# Altium schematic symbol library TAG_V2.SCHLIB: 42 symbols
Pins are listed as number, name and electrical type; pins without a type are passive.

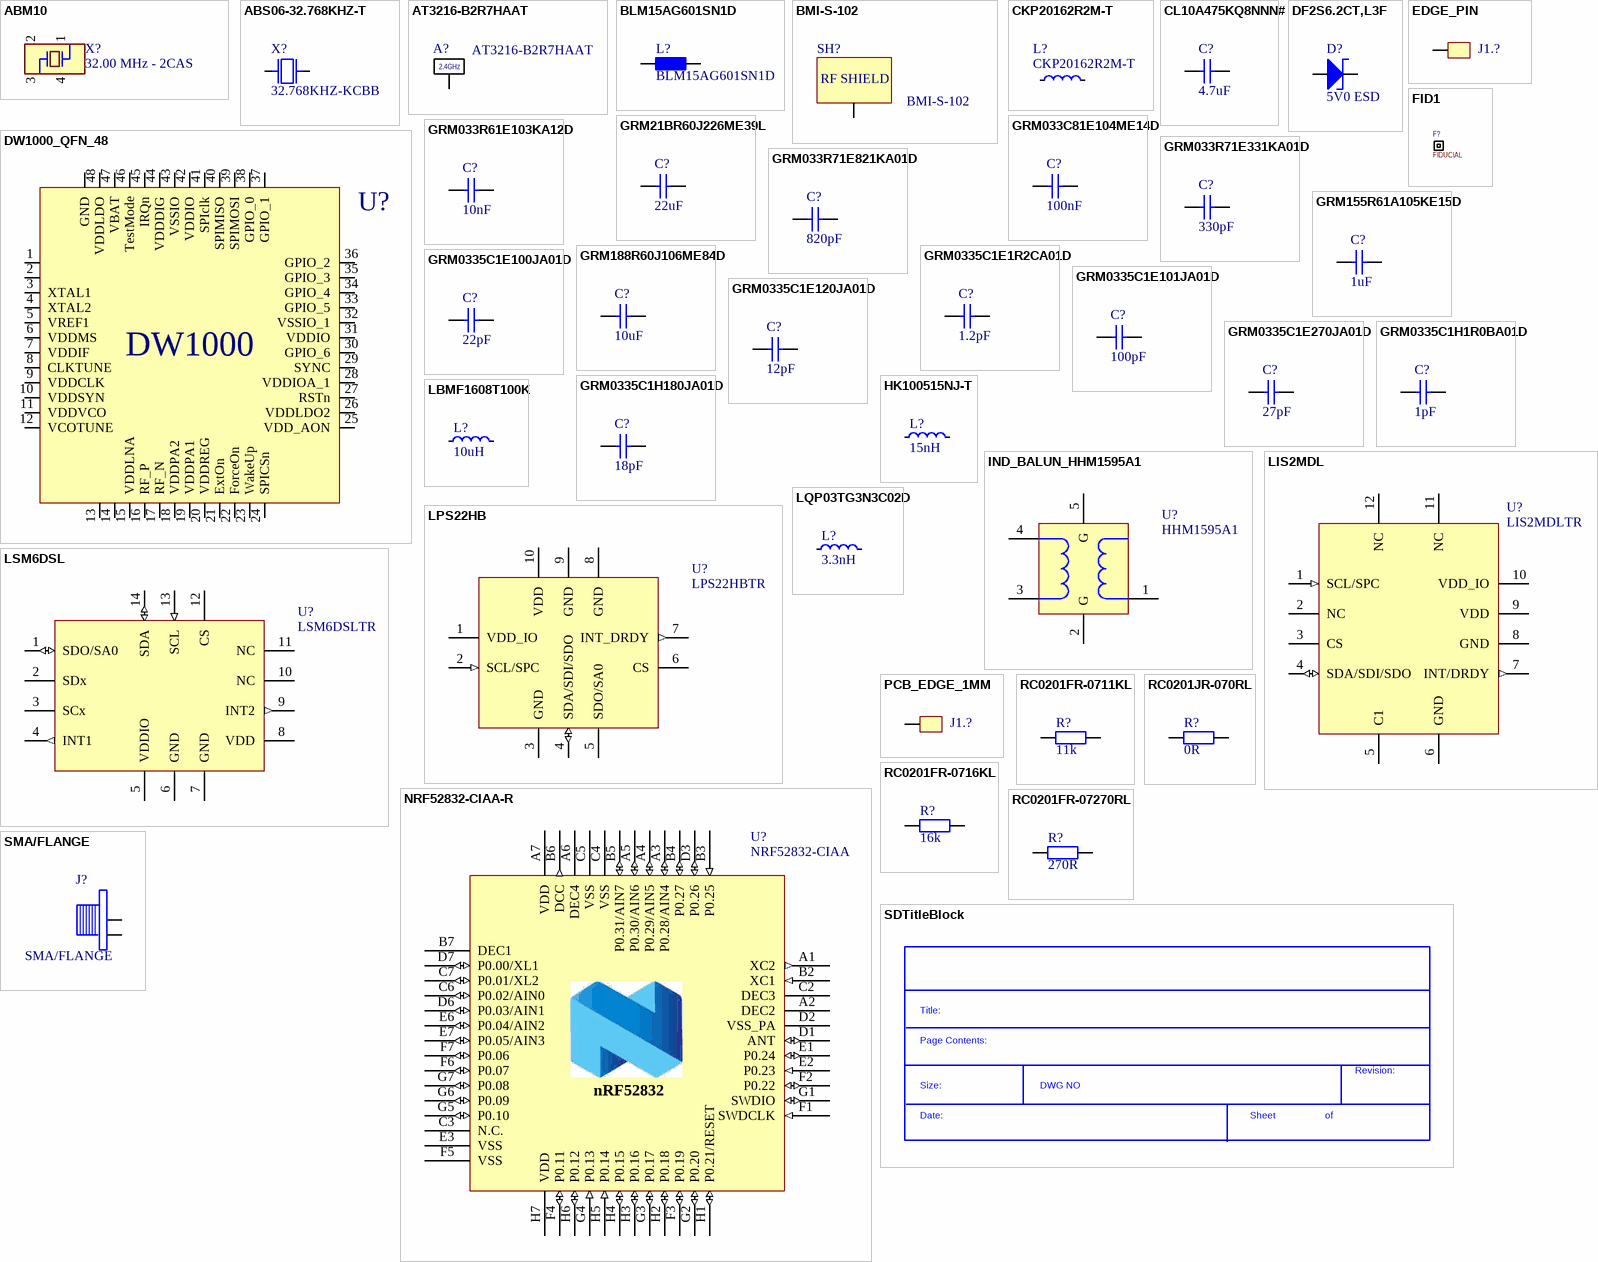
[diagram p0: symbols ABM10 to SMA/FLANGE]

## ABM10
designator X?, comment 32.00 MHz - 2CAS
Manufacturer: Commutek; Manufacturer Part Number: 2CAS
footprint ABM10 (Abracon ABM10)
pins: 1, 2, 3, 4

## ABS06-32.768KHZ-T
designator X?, comment 32.768KHZ-KCBB
CRYSTAL 32.7680KHZ 12.5PF SMD; Manufacturer: Commutek; Manufacturer Part Number: KCBB
footprint XTAL_SMD_3.2X1.5MM
pins: 1, 2

## AT3216-B2R7HAAT
designator A?
CHIP, 2.45GHZ, 50 OHM, 3.2x1.6 ACX - AAT3216-B2R7HAAT- ANTENNA; Manufacturer: ACX; Manufacturer Part Number: AT3216-B2R7HAAT
footprint AT3216 (Chip Antenna 2-Leads, Body 3,20x1,60mm)
pins: 1
text: 2.4GHz

## BLM15AG601SN1D
designator L?
FERRITE BEAD 600 OHM 0402 1LN; Manufacturer: Murata Electronics North America; Manufacturer Part Number: BLM15AG601SN1D
footprint INDC1005X05N (Chip Inductor, 2-Leads, Body 1,00x0,50mm, IPC Medium Density)
pins: 1, 2

## BMI-S-102
designator SH?
BOARD SHIELD .65X.65" 1PIECE; Manufacturer: Laird Technologies EMI; Manufacturer Part Number: BMI-S-102
footprint BMI-S102
pins: 0 GND
text: RF SHIELD

## CKP20162R2M-T
designator L?
FIXED IND 2.2UH 1.2A 110 MOHM; Manufacturer: TAIYO YUDEN; Manufacturer Part Number: CKP20162R2M-T
footprint INDC2016X10N (Footprint not found)
pins: 1, 2

## CL10A475KQ8NNN#
designator C?, comment 4.7uF
CAP CER 4.7UF 6.3V X5R 0603; Manufacturer: SamSung; Manufacturer Part Number: CL10A475KQ8NNN#
footprint C0603
pins: 1, 2

## DF2S6.2CT,L3F
designator D?, comment 5V0 ESD
TVS DIODE 5VWM; Manufacturer: Toshiba Semiconductor and Storage; Manufacturer Part Number: DF2S6.2CT,L3F
footprint DFN65P100X40-2N (DFN, 2-Leads, Body 0,60x1,00mm, Pitch 0,65mm, IPC Medium Density)
pins: A, K

## DW1000_QFN_48
designator U?, comment DW1000 IC  (value not drawn)
UWB DW1000 QFN48; Manufacturer: Decawave Ltd.; Cost: *; Footprint: QFN_48; Manufacturer Part Number: DW1000
footprint QFN-48_DW1000 (48 Pin QFN)
pins: 1, 2, 3 XTAL1, 4 XTAL2, 5 VREF1, 6 VDDMS, 7 VDDIF, 8 CLKTUNE, 9 VDDCLK, 10 VDDSYN, 11 VDDVCO, 12 VCOTUNE, 13, 14, 15 VDDLNA, 16 RF_P, 17 RF_N, 18 VDDPA2, 19 VDDPA1, 20 VDDREG, 21 ExtOn, 22 ForceOn, 23 WakeUp, 24 SPICSn, 25 VDD_AON, 26 VDDLDO2, 27 RSTn, 28 VDDIOA_1, 29 SYNC, 30 GPIO_6, 31 VDDIO, 32 VSSIO_1, 33 GPIO_5, 34 GPIO_4, 35 GPIO_3, 36 GPIO_2, 37 GPIO_1, 38 GPIO_0, 39 SPIMOSI, 40 SPIMISO, 41 SPIclk, 42 VDDIO, 43 VSSIO, 44 VDDDIG, 45 IRQn, 46 TestMode, 47 VBAT, 48 VDDLDO, EP GND

## EDGE_PIN
designator J1.?  (value not drawn)  (no BOM)
PCB Edge pin
footprint PCB_EDGE (PCB EDGE PIN)
footprint PCB_EDGE_1MM (PCB EDGE PIN)
pins: 0

## FID1
designator F?, comment FIDUCIAL
Fiducial 1mm
footprint FID1

## GRM21BR60J226ME39L
designator C?, comment 22uF
CAP CER 22UF 6.3V X5R 0805; Manufacturer: Samsung; Manufacturer Part Number: CL21A226MQQNNNE
footprint C0805
pins: 1, 2

## GRM033C81E104ME14D
designator C?, comment 100nF
CAP CER 0.1UF 25V X6S 0201; Manufacturer: Murata Electronics North America; Manufacturer Part Number: GRM033C81E104ME14D
footprint C0201 (Creator MM)
pins: 1, 2

## GRM033R61E103KA12D
designator C?, comment 10nF
CAP CER 10000PF 25V X5R 0201; Manufacturer: Murata Electronics North America; Manufacturer Part Number: GRM033R61E103KA12D
footprint C0201 (Creator MM)
pins: 1, 2

## GRM033R71E331KA01D
designator C?, comment 330pF
CAP CER 330PF 25V X7R 0201; Manufacturer: Samsung; Manufacturer Part Number: CL03B331KA3NNNC
footprint C0201 (Creator MM)
pins: 1, 2

## GRM033R71E821KA01D
designator C?, comment 820pF
CAP CER 820PF 25V X7R 0201; Manufacturer: Murata Electronics North America; Manufacturer Part Number: GRM033R71E821KA01D
footprint C0201 (Creator MM)
pins: 1, 2

## GRM155R61A105KE15D
designator C?, comment 1uF
CAP CER 1UF 10V X5R 0402; Manufacturer: Murata Electronics North America; Manufacturer Part Number: GRM155R61A105KE15D
footprint C0402
pins: 1, 2

## GRM188R60J106ME84D
designator C?, comment 10uF
CAP CER 10UF 6.3V X5R 0603; Manufacturer: Murata Electronics North America; Manufacturer Part Number: GRM188R60J106ME47D
footprint C0603
pins: 1, 2

## GRM0335C1E1R2CA01D
designator C?, comment 1.2pF
CAP CER 1.2PF 25V NP0 0201; Manufacturer: Murata Electronics North America; Manufacturer Part Number: GRM0335C1E1R2CA01D
footprint C0201 (Creator MM)
pins: 1, 2

## GRM0335C1E100JA01D
designator C?, comment 22pF
CAP CER 22PF 25V NP0 0201; Manufacturer: Murata Electronics North America; Manufacturer Part Number: GRM0335C1E220JA01D; Failure Rate: *
footprint C0201
pins: 1, 2

## GRM0335C1E101JA01D
designator C?, comment 100pF
CAP CER 100PF 25V NP0 0201; Manufacturer: Murata Electronics North America; Manufacturer Part Number: GRM0335C1E101JA01D
footprint C0201 (Creator MM)
pins: 1, 2

## GRM0335C1E120JA01D
designator C?, comment 12pF
CAP CER 12PF 25V NP0 0201; Manufacturer: Murata Electronics North America; Manufacturer Part Number: GRM0335C1E120JA01D
footprint C0201 (Creator MM)
pins: 1, 2

## GRM0335C1E270JA01D
designator C?, comment 27pF
CAP CER 27PF 25V NP0 0201; Manufacturer: Murata Electronics North America; Manufacturer Part Number: GRM0335C1E270JA01D
footprint C0201 (Creator MM)
pins: 1, 2

## GRM0335C1H1R0BA01D
designator C?, comment 1pF
CAP CER 1PF 50V NP0 0201; Manufacturer: Murata Electronics North America; Manufacturer Part Number: GRM0335C1H1R0BA01D
footprint C0201 (Creator MM)
pins: 1, 2

## GRM0335C1H180JA01D
designator C?, comment 18pF
CAP CER 18PF 50V NP0 0201; Manufacturer: Murata Electronics North America; Manufacturer Part Number: GRM0335C1H180JA01D; Thickness (Max): *
footprint C0201 (Creator MM)
pins: 1, 2

## HK100515NJ-T
designator L?, comment 15nH
FIXED IND 15NH 320MA 460 MOHM; Manufacturer: Taiyo Yuden; Manufacturer Part Number: HK100515NJ-T
footprint INDC1005X05N (Chip Inductor, 2-Leads, Body 1,00x0,50mm, IPC Medium Density)
pins: 1, 2

## IND_BALUN_HHM1595A1
designator U?, comment HHM1595A1
Mulitilayer Balun; Manufacturer: TDK; Manufacturer Part Number: HHM1595A1
footprint BALUN_HHM1595A1 (Footprint not found)
pins: 1 UB, 2 G, 3 B, 4 B, 5 G

## LBMF1608T100K
designator L?, comment 10uH
FIXED IND 10UH 80MA 360 MOHM SMD; Manufacturer: Taiyo Yuden; Manufacturer Part Number: LBMF1608T100K
footprint L0603
pins: 1, 2

## LIS2MDL
designator U?, comment LIS2MDLTR
Manufacturer: STmicroelectronics; Manufacturer Part Number: LIS2MDLTR
footprint IC_LGA-12 (LIS2MDL)
pins: 1 SCL/SPC (in), 2 NC, 3 CS, 4 SDA/SDI/SDO (io), 5 C1, 6 GND, 7 INT/DRDY (out), 8 GND, 9 VDD (power), 10 VDD_IO (power), 11 NC, 12 NC

## LPS22HB
designator U?, comment LPS22HBTR
Manufacturer: STmicroelectronics; Manufacturer Part Number: LPS22HBTR
footprint HLGA-10L
pins: 1 VDD_IO (power), 2 SCL/SPC (in), 3 GND, 4 SDA/SDI/SDO (io), 5 SDO/SA0, 6 CS, 7 INT_DRDY (out), 8 GND, 9 GND, 10 VDD (power)

## LQP03TG3N3C02D
designator L?, comment 3.3nH
FIXED IND 3.3NH 400MA 320 MOHM; Manufacturer: Murata Electronics North America; Manufacturer Part Number: LQP03TG3N3C02D
footprint L0201
pins: 1, 2

## LSM6DSL
designator U?, comment LSM6DSLTR
Manufacturer: STmicroelectronics; Manufacturer Part Number: LSM6DSLTR
footprint IC_LGA-14 (LSM6DSL)
pins: 1 SDO/SA0 (io), 2 SDx, 3 SCx, 4 INT1 (out), 5 VDDIO (power), 6 GND, 7 GND, 8 VDD (power), 9 INT2 (out), 10 NC, 11 NC, 12 CS, 13 SCL (in), 14 SDA (io)

## NRF52832-CIAA-R
designator U?, comment NRF52832-CIAA
IC RF TXRX+MCU BLUETOOTH 50WLCSP; Manufacturer: Nordic Semiconductor ASA; Manufacturer Part Number: NRF52832-CIAA-R; RF Family/Standard: *; Protocol: *; Modulation: *; Frequency: *; Data Rate (Max): *; Power - Output: *; Sensitivity: *; Memory Size: *; Serial Interfaces: *; GPIO: *; Voltage - Supply: *; Current - Receiving: *; Current - Transmitting: *; Operating Temperature: *
footprint BGA50C40P7X8_295X322X50 (BGA, 50-Leads, Body 2.95x3.22mmx0.50mm, Pitch 0.40mm)
pins: A1 XC2 (out), A2 DEC2 (power), A3 P0.28/AIN4 (io), A4 P0.29/AIN5 (io), A5 P0.30/AIN6 (io), A6 DEC4 (power), A7 VDD (power), B2 XC1 (in), B3 P0.25 (in), B4 P0.27 (io), B5 P0.31/AIN7 (io), B6 DCC (out), B7 DEC1 (power), C2 DEC3 (power), C3 N.C. (power), C4 VSS (power), C5 VSS (power), C6 P0.02/AIN0 (io), C7 P0.01/XL2 (io), D1 ANT (io), D2 VSS_PA (power), D3 P0.26 (io), D6 P0.03/AIN1 (io), D7 P0.00/XL1 (io), E1 P0.24 (io), E2 P0.23 (in), E3 VSS (power), E6 P0.04/AIN2 (io), E7 P0.05/AIN3 (io), F1 SWDCLK (in), F2 P0.22 (io), F3 P0.19 (io), F4 P0.11 (io), F5 VSS (power), F6 P0.07 (io), F7 P0.06 (io), G1 SWDIO (io), G2 P0.20 (io), G3 P0.17 (io), G4 P0.13 (in), G5 P0.10 (io), G6 P0.09 (io), G7 P0.08 (io), H1 P0.21/RESET (io), H2 P0.18 (io), H3 P0.16 (io), H4 P0.15 (io), H5 P0.14 (in), H6 P0.12 (io), H7 VDD (power)
text: nRF52832

## PCB_EDGE_1MM
designator J1.?, comment EDGE_PIN  (value not drawn)
PCB Edge pin
footprint PCB_EDGE (PCB EDGE PIN)
footprint PCB_EDGE_1MM (PCB EDGE PIN)
pins: 0

## RC0201FR-0711KL
designator R?, comment 11k
RES SMD 11K OHM 1% 1/20W 0201; Manufacturer: Yageo; Manufacturer Part Number: RC0201FR-0711KL
footprint R0201 (Creator MM)
pins: 1, 2

## RC0201FR-0716KL
designator R?, comment 16k
RES SMD 16K OHM 1% 1/20W 0201; Manufacturer: Yageo; Manufacturer Part Number: RC0201FR-0716KL
footprint R0201 (Creator MM)
pins: 1, 2

## RC0201FR-07270RL
designator R?, comment 270R
RES SMD 270 OHM 1% 1/20W 0201; Manufacturer: Yageo; Manufacturer Part Number: RC0201FR-07270RL
footprint R0201 (Creator MM)
pins: 1, 2

## RC0201JR-070RL
designator R?, comment 0R
RES SMD 0.0OHM JUMPER 1/20W 0201; Manufacturer: Yageo; Manufacturer Part Number: RC0201JR-070RL
footprint R0201 (Creator MM)
pins: 1, 2

## SDTitleBlock
designator *?  (value not drawn)  (graphical)
text: Title:; Page Contents:; Revision:; Size:; DWG NO; Date:; Sheet; of

## SMA/FLANGE
designator J?
SMA FLANGE JACK
footprint SMA_FLANGE/A
pins: 1, 2, 3, 4, 5

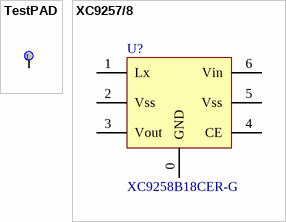
[diagram p1: symbols TestPAD to XC9257/8]

## TestPAD
designator T?  (value not drawn)
footprint Testpad
pins: 1
text: T

## XC9257/8
designator U?, comment XC9258B18CER-G
Manufacturer: Torex; Manufacturer Part Number: XC9258B18CER-G
footprint USP-6C
pins: 0 GND, 1 Lx, 2 Vss, 3 Vout, 4 CE, 5 Vss, 6 Vin